# Altium integrated library Analog Devices Data Converters Digital-to-Analog Converters.IntLib: 2231 symbols (part 6 of 181)
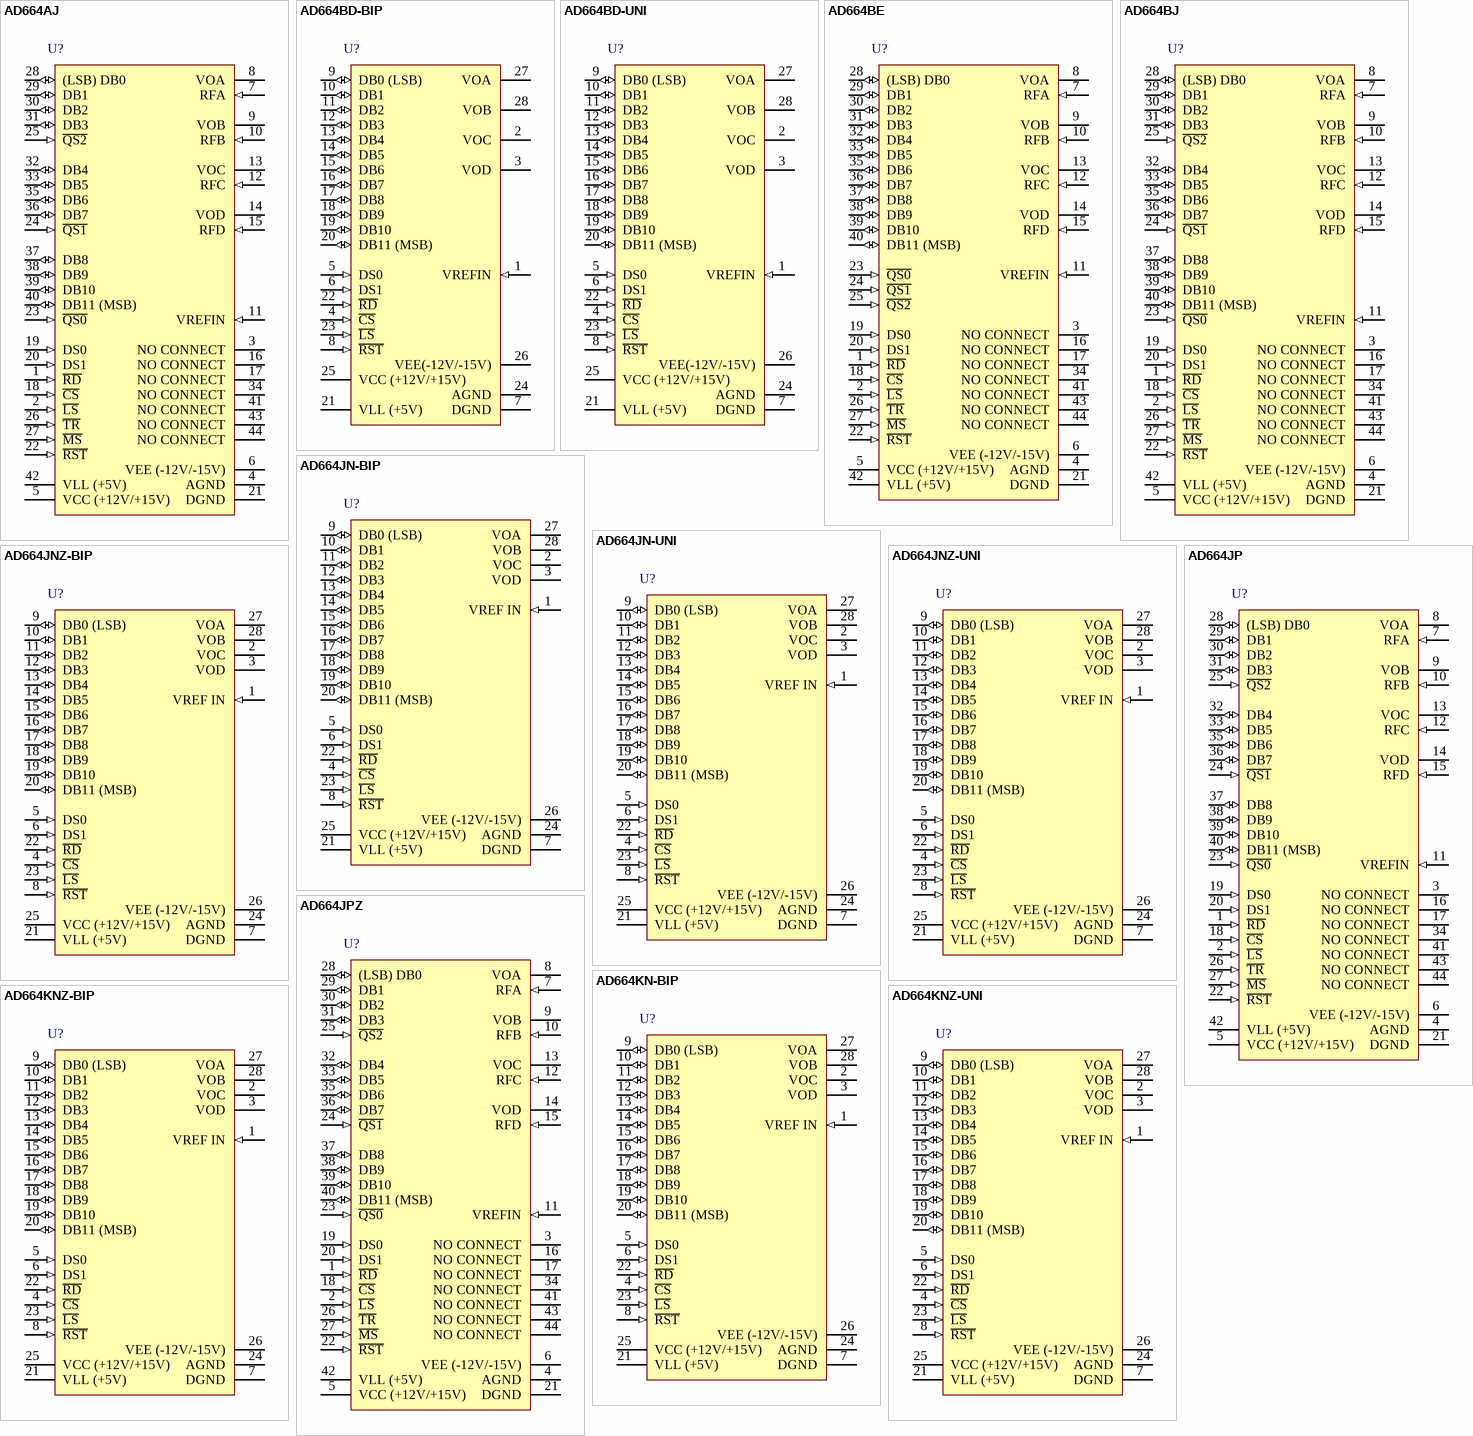
[diagram p119: symbols AD664AJ to AD664KNZ-UNI]

## AD664JN-UNI
designator U?
Quad 12-Bit Monolithic Digital-to-Analog Converter, 0 to +70 degC, N-28-2, Tube; Generic Part Number: AD664; Manufacturer: Analog Devices; PartNumber: AD664JN-UNI; # DAC Outputs: 4; Max V+: 16.5V; Op Pwr Diss: 525mW; Resolution (Bits): 12; Settling Time: 8µs; Single Supply: No; DatasheetVersion: Rev.D; PackageVersion: 071006-A; PackageReference: N-28-2; PackageDescription: 28-Lead Plastic Dual In-Line Package [PDIP]; Supplier 1: Digi-Key; Supplier Part Number 1: AD664JN-UNI-ND; Supplier 2: Newark; Supplier Part Number 2: 92F8924; Supplier 3: Mouser; Supplier Part Number 3: 584-AD664JN-UNI; Packing: Tube; RoHS: N; Mounting Technology: Through Hole; Code_JEDEC: MS-011; ComponentLink1Description: Manufacturer URL; ComponentLink1URL: http://www.analog.com/en/index.html; ComponentLink2Description: Datasheet; ComponentLink2URL: http://www.analog.com/static/imported-files/data_sheets/AD664.pdf; ComponentLink3Description: Package Specification; ComponentLink3URL: http://www.analog.com/static/imported-files/packages/50849324123784N_28_2.pdf; ComponentLink4Description: Product URL; ComponentLink4URL: http://www.analog.com/en/digital-to-analog-converters/da-converters/ad664/products/product.html
footprint N-28-2 (DIP, 28-Leads, Row Spacing 15.55mm, Pitch 2.54mm, Body 37.4x13.5mm)
pins: 1 VREF IN (in), 2 VOC (hiz), 3 VOD (hiz), 4 ~{CS} (in), 5 DS0 (in), 6 DS1 (in), 7 DGND (power), 8 ~{RST} (in), 9 DB0 (LSB) (io), 10 DB1 (io), 11 DB2 (io), 12 DB3 (io), 13 DB4 (io), 14 DB5 (io), 15 DB6 (io), 16 DB7 (io), 17 DB8 (io), 18 DB9 (io), 19 DB10 (io), 20 DB11 (MSB) (io), 21 VLL (+5V) (power), 22 ~{RD} (in), 23 ~{LS} (in), 24 AGND (power), 25 VCC (+12V/+15V) (power), 26 VEE (-12V/-15V) (power), 27 VOA (hiz), 28 VOB (hiz)

## AD664JNZ-BIP
designator U?
Quad 12-Bit Monolithic Digital-to-Analog Converter, 0 to +70 degC, N-28-2, Pb-Free, Tube; Generic Part Number: AD664; Manufacturer: Analog Devices; PartNumber: AD664JNZ-BIP; # DAC Outputs: 4; Max V+: 16.5V; Op Pwr Diss: 525mW; Resolution (Bits): 12; Settling Time: 8µs; Single Supply: No; DatasheetVersion: Rev.D; PackageVersion: 071006-A; PackageReference: N-28-2; PackageDescription: 28-Lead Plastic Dual In-Line Package [PDIP]; Supplier 1: Digi-Key; Supplier Part Number 1: AD664JNZ-BIP-ND; Supplier 2: Mouser; Supplier Part Number 2: 584-AD664JNZ-BIP; Packing: Tube; RoHS: Y; Mounting Technology: Through Hole; Code_JEDEC: MS-011; ComponentLink1Description: Manufacturer URL; ComponentLink1URL: http://www.analog.com/en/index.html; ComponentLink2Description: Datasheet; ComponentLink2URL: http://www.analog.com/static/imported-files/data_sheets/AD664.pdf; ComponentLink3Description: Package Specification; ComponentLink3URL: http://www.analog.com/static/imported-files/packages/50849324123784N_28_2.pdf; ComponentLink4Description: Product URL; ComponentLink4URL: http://www.analog.com/en/digital-to-analog-converters/da-converters/ad664/products/product.html
footprint N-28-2 (DIP, 28-Leads, Row Spacing 15.55mm, Pitch 2.54mm, Body 37.4x13.5mm)
pins: 1 VREF IN (in), 2 VOC (hiz), 3 VOD (hiz), 4 ~{CS} (in), 5 DS0 (in), 6 DS1 (in), 7 DGND (power), 8 ~{RST} (in), 9 DB0 (LSB) (io), 10 DB1 (io), 11 DB2 (io), 12 DB3 (io), 13 DB4 (io), 14 DB5 (io), 15 DB6 (io), 16 DB7 (io), 17 DB8 (io), 18 DB9 (io), 19 DB10 (io), 20 DB11 (MSB) (io), 21 VLL (+5V) (power), 22 ~{RD} (in), 23 ~{LS} (in), 24 AGND (power), 25 VCC (+12V/+15V) (power), 26 VEE (-12V/-15V) (power), 27 VOA (hiz), 28 VOB (hiz)

## AD664JNZ-UNI
designator U?
Quad 12-Bit Monolithic Digital-to-Analog Converter, 0 to +70 degC, N-28-2, Pb-Free, Tube; Generic Part Number: AD664; Manufacturer: Analog Devices; PartNumber: AD664JNZ-UNI; # DAC Outputs: 4; Max V+: 16.5V; Op Pwr Diss: 525mW; Resolution (Bits): 12; Settling Time: 8µs; Single Supply: No; DatasheetVersion: Rev.D; PackageVersion: 071006-A; PackageReference: N-28-2; PackageDescription: 28-Lead Plastic Dual In-Line Package [PDIP]; Supplier 1: Digi-Key; Supplier Part Number 1: AD664JNZ-UNI-ND; Supplier 2: Mouser; Supplier Part Number 2: 584-AD664JNZ-UNI; Packing: Tube; RoHS: Y; Mounting Technology: Through Hole; Code_JEDEC: MS-011; ComponentLink1Description: Manufacturer URL; ComponentLink1URL: http://www.analog.com/en/index.html; ComponentLink2Description: Datasheet; ComponentLink2URL: http://www.analog.com/static/imported-files/data_sheets/AD664.pdf; ComponentLink3Description: Package Specification; ComponentLink3URL: http://www.analog.com/static/imported-files/packages/50849324123784N_28_2.pdf; ComponentLink4Description: Product URL; ComponentLink4URL: http://www.analog.com/en/digital-to-analog-converters/da-converters/ad664/products/product.html
footprint N-28-2 (DIP, 28-Leads, Row Spacing 15.55mm, Pitch 2.54mm, Body 37.4x13.5mm)
pins: 1 VREF IN (in), 2 VOC (hiz), 3 VOD (hiz), 4 ~{CS} (in), 5 DS0 (in), 6 DS1 (in), 7 DGND (power), 8 ~{RST} (in), 9 DB0 (LSB) (io), 10 DB1 (io), 11 DB2 (io), 12 DB3 (io), 13 DB4 (io), 14 DB5 (io), 15 DB6 (io), 16 DB7 (io), 17 DB8 (io), 18 DB9 (io), 19 DB10 (io), 20 DB11 (MSB) (io), 21 VLL (+5V) (power), 22 ~{RD} (in), 23 ~{LS} (in), 24 AGND (power), 25 VCC (+12V/+15V) (power), 26 VEE (-12V/-15V) (power), 27 VOA (hiz), 28 VOB (hiz)

## AD664JP
designator U?
Quad 12-Bit Monolithic Digital-to-Analog Converter, 0 to +70 degC, P-44A, Tube; Generic Part Number: AD664; Manufacturer: Analog Devices; PartNumber: AD664JP; # DAC Outputs: 4; Max V+: 16.5V; Op Pwr Diss: 525mW; Resolution (Bits): 12; Settling Time: 8µs; Single Supply: No; DatasheetVersion: Rev.D; PackageVersion: 2003; PackageReference: P-44A; PackageDescription: 44-Lead Plastic Leaded Chip Carrier [PLCC]; Supplier 1: Digi-Key; Supplier Part Number 1: AD664JP-ND; Supplier 2: Mouser; Supplier Part Number 2: 584-AD664JP; Packing: Tube; RoHS: N; Mounting Technology: Surface Mount; Code_JEDEC: MO-047-AC; Code_IPC: PLCC-44; ComponentLink1Description: Manufacturer URL; ComponentLink1URL: http://www.analog.com/en/index.html; ComponentLink2Description: Datasheet; ComponentLink2URL: http://www.analog.com/static/imported-files/data_sheets/AD664.pdf; ComponentLink3Description: Package Specification; ComponentLink3URL: http://www.analog.com/static/imported-files/packages/533756178731793364534243243792136664964P44A.pdf; ComponentLink4Description: Product URL; ComponentLink4URL: http://www.analog.com/en/digital-to-analog-converters/da-converters/ad664/products/product.html
footprint P-44A_N (Leaded Chip Carrier, 44-Leads, Body 16.6x16.6mm, Pitch 1.27mm, IPC Medium Density)
footprint P-44A_L (Leaded Chip Carrier, 44-Leads, Body 16.6x16.6mm, Pitch 1.27mm, IPC High Density)
footprint P-44A_M (Leaded Chip Carrier, 44-Leads, Body 16.6x16.6mm, Pitch 1.27mm, IPC Low Density)
pins: 1 ~{RD} (in), 2 ~{LS} (in), 3 NO CONNECT, 4 AGND (power), 5 VCC (+12V/+15V) (power), 6 VEE (-12V/-15V) (power), 7 RFA (in), 8 VOA (hiz), 9 VOB (hiz), 10 RFB (in), 11 VREFIN (in), 12 RFC (in), 13 VOC (hiz), 14 VOD (hiz), 15 RFD (in), 16 NO CONNECT, 17 NO CONNECT, 18 ~{CS} (in), 19 DS0 (in), 20 DS1 (in), 21 DGND (power), 22 ~{RST} (in), 23 ~{QS0} (in), 24 ~{QS1} (in), 25 ~{QS2} (in), 26 ~{TR} (in), 27 ~{MS} (in), 28 (LSB) DB0 (io), 29 DB1 (io), 30 DB2 (io), 31 DB3 (io), 32 DB4 (io), 33 DB5 (io), 34 NO CONNECT, 35 DB6 (io), 36 DB7 (io), 37 DB8 (io), 38 DB9 (io), 39 DB10 (io), 40 DB11 (MSB) (io), 41 NO CONNECT, 42 VLL (+5V) (power), 43 NO CONNECT, 44 NO CONNECT

## AD664JPZ
designator U?
Quad 12-Bit Monolithic Digital-to-Analog Converter, 0 to +70 degC, P-44A, Pb-Free, Tube; Generic Part Number: AD664; Manufacturer: Analog Devices; PartNumber: AD664JPZ; # DAC Outputs: 4; Max V+: 16.5V; Op Pwr Diss: 525mW; Resolution (Bits): 12; Settling Time: 8µs; Single Supply: No; DatasheetVersion: Rev.D; PackageVersion: 2003; PackageReference: P-44A; PackageDescription: 44-Lead Plastic Leaded Chip Carrier [PLCC]; Supplier 1: Digi-Key; Supplier Part Number 1: AD664JPZ-ND; Supplier 2: Mouser; Supplier Part Number 2: 584-AD664JPZ; Packing: Tube; RoHS: Y; Mounting Technology: Surface Mount; Code_JEDEC: MO-047-AC; Code_IPC: PLCC-44; ComponentLink1Description: Manufacturer URL; ComponentLink1URL: http://www.analog.com/en/index.html; ComponentLink2Description: Datasheet; ComponentLink2URL: http://www.analog.com/static/imported-files/data_sheets/AD664.pdf; ComponentLink3Description: Package Specification; ComponentLink3URL: http://www.analog.com/static/imported-files/packages/533756178731793364534243243792136664964P44A.pdf; ComponentLink4Description: Product URL; ComponentLink4URL: http://www.analog.com/en/digital-to-analog-converters/da-converters/ad664/products/product.html
footprint P-44A_N (Leaded Chip Carrier, 44-Leads, Body 16.6x16.6mm, Pitch 1.27mm, IPC Medium Density)
footprint P-44A_L (Leaded Chip Carrier, 44-Leads, Body 16.6x16.6mm, Pitch 1.27mm, IPC High Density)
footprint P-44A_M (Leaded Chip Carrier, 44-Leads, Body 16.6x16.6mm, Pitch 1.27mm, IPC Low Density)
pins: 1 ~{RD} (in), 2 ~{LS} (in), 3 NO CONNECT, 4 AGND (power), 5 VCC (+12V/+15V) (power), 6 VEE (-12V/-15V) (power), 7 RFA (in), 8 VOA (hiz), 9 VOB (hiz), 10 RFB (in), 11 VREFIN (in), 12 RFC (in), 13 VOC (hiz), 14 VOD (hiz), 15 RFD (in), 16 NO CONNECT, 17 NO CONNECT, 18 ~{CS} (in), 19 DS0 (in), 20 DS1 (in), 21 DGND (power), 22 ~{RST} (in), 23 ~{QS0} (in), 24 ~{QS1} (in), 25 ~{QS2} (in), 26 ~{TR} (in), 27 ~{MS} (in), 28 (LSB) DB0 (io), 29 DB1 (io), 30 DB2 (io), 31 DB3 (io), 32 DB4 (io), 33 DB5 (io), 34 NO CONNECT, 35 DB6 (io), 36 DB7 (io), 37 DB8 (io), 38 DB9 (io), 39 DB10 (io), 40 DB11 (MSB) (io), 41 NO CONNECT, 42 VLL (+5V) (power), 43 NO CONNECT, 44 NO CONNECT

## AD664KN-BIP
designator U?
Quad 12-Bit Monolithic Digital-to-Analog Converter, 0 to +70 degC, N-28-2, Tube; Generic Part Number: AD664; Manufacturer: Analog Devices; PartNumber: AD664KN-BIP; # DAC Outputs: 4; Max V+: 16.5V; Op Pwr Diss: 525mW; Resolution (Bits): 12; Settling Time: 8µs; Single Supply: No; DatasheetVersion: Rev.D; PackageVersion: 071006-A; PackageReference: N-28-2; PackageDescription: 28-Lead Plastic Dual In-Line Package [PDIP]; Supplier 1: Digi-Key; Supplier Part Number 1: AD664KN-BIP-ND; Supplier 2: Newark; Supplier Part Number 2: 92F8922; Supplier 3: Mouser; Supplier Part Number 3: 584-AD664KN-BIP; Packing: Tube; RoHS: N; Mounting Technology: Through Hole; Code_JEDEC: MS-011; ComponentLink1Description: Manufacturer URL; ComponentLink1URL: http://www.analog.com/en/index.html; ComponentLink2Description: Datasheet; ComponentLink2URL: http://www.analog.com/static/imported-files/data_sheets/AD664.pdf; ComponentLink3Description: Package Specification; ComponentLink3URL: http://www.analog.com/static/imported-files/packages/50849324123784N_28_2.pdf; ComponentLink4Description: Product URL; ComponentLink4URL: http://www.analog.com/en/digital-to-analog-converters/da-converters/ad664/products/product.html
footprint N-28-2 (DIP, 28-Leads, Row Spacing 15.55mm, Pitch 2.54mm, Body 37.4x13.5mm)
pins: 1 VREF IN (in), 2 VOC (hiz), 3 VOD (hiz), 4 ~{CS} (in), 5 DS0 (in), 6 DS1 (in), 7 DGND (power), 8 ~{RST} (in), 9 DB0 (LSB) (io), 10 DB1 (io), 11 DB2 (io), 12 DB3 (io), 13 DB4 (io), 14 DB5 (io), 15 DB6 (io), 16 DB7 (io), 17 DB8 (io), 18 DB9 (io), 19 DB10 (io), 20 DB11 (MSB) (io), 21 VLL (+5V) (power), 22 ~{RD} (in), 23 ~{LS} (in), 24 AGND (power), 25 VCC (+12V/+15V) (power), 26 VEE (-12V/-15V) (power), 27 VOA (hiz), 28 VOB (hiz)

## AD664KNZ-BIP
designator U?
Quad 12-Bit Monolithic Digital-to-Analog Converter, 0 to +70 degC, N-28-2, Pb-Free, Tube; Generic Part Number: AD664; Manufacturer: Analog Devices; PartNumber: AD664KNZ-BIP; # DAC Outputs: 4; Max V+: 16.5V; Op Pwr Diss: 525mW; Resolution (Bits): 12; Settling Time: 8µs; Single Supply: No; DatasheetVersion: Rev.D; PackageVersion: 071006-A; PackageReference: N-28-2; PackageDescription: 28-Lead Plastic Dual In-Line Package [PDIP]; Supplier 1: Digi-Key; Supplier Part Number 1: AD664KNZ-BIP-ND; Supplier 2: Mouser; Supplier Part Number 2: 584-AD664KNZ-BIP; Packing: Tube; RoHS: Y; Mounting Technology: Through Hole; Code_JEDEC: MS-011; ComponentLink1Description: Manufacturer URL; ComponentLink1URL: http://www.analog.com/en/index.html; ComponentLink2Description: Datasheet; ComponentLink2URL: http://www.analog.com/static/imported-files/data_sheets/AD664.pdf; ComponentLink3Description: Package Specification; ComponentLink3URL: http://www.analog.com/static/imported-files/packages/50849324123784N_28_2.pdf; ComponentLink4Description: Product URL; ComponentLink4URL: http://www.analog.com/en/digital-to-analog-converters/da-converters/ad664/products/product.html
footprint N-28-2 (DIP, 28-Leads, Row Spacing 15.55mm, Pitch 2.54mm, Body 37.4x13.5mm)
pins: 1 VREF IN (in), 2 VOC (hiz), 3 VOD (hiz), 4 ~{CS} (in), 5 DS0 (in), 6 DS1 (in), 7 DGND (power), 8 ~{RST} (in), 9 DB0 (LSB) (io), 10 DB1 (io), 11 DB2 (io), 12 DB3 (io), 13 DB4 (io), 14 DB5 (io), 15 DB6 (io), 16 DB7 (io), 17 DB8 (io), 18 DB9 (io), 19 DB10 (io), 20 DB11 (MSB) (io), 21 VLL (+5V) (power), 22 ~{RD} (in), 23 ~{LS} (in), 24 AGND (power), 25 VCC (+12V/+15V) (power), 26 VEE (-12V/-15V) (power), 27 VOA (hiz), 28 VOB (hiz)

## AD664KNZ-UNI
designator U?
Quad 12-Bit Monolithic Digital-to-Analog Converter, 0 to +70 degC, N-28-2, Pb-Free, Tube; Generic Part Number: AD664; Manufacturer: Analog Devices; PartNumber: AD664KNZ-UNI; # DAC Outputs: 4; Max V+: 16.5V; Op Pwr Diss: 525mW; Resolution (Bits): 12; Settling Time: 8µs; Single Supply: No; DatasheetVersion: Rev.D; PackageVersion: 071006-A; PackageReference: N-28-2; PackageDescription: 28-Lead Plastic Dual In-Line Package [PDIP]; Supplier 1: Digi-Key; Supplier Part Number 1: AD664KNZ-UNI-ND; Supplier 2: Mouser; Supplier Part Number 2: 584-AD664KNZ-UNI; Packing: Tube; RoHS: Y; Mounting Technology: Through Hole; Code_JEDEC: MS-011; ComponentLink1Description: Manufacturer URL; ComponentLink1URL: http://www.analog.com/en/index.html; ComponentLink2Description: Datasheet; ComponentLink2URL: http://www.analog.com/static/imported-files/data_sheets/AD664.pdf; ComponentLink3Description: Package Specification; ComponentLink3URL: http://www.analog.com/static/imported-files/packages/50849324123784N_28_2.pdf; ComponentLink4Description: Product URL; ComponentLink4URL: http://www.analog.com/en/digital-to-analog-converters/da-converters/ad664/products/product.html
footprint N-28-2 (DIP, 28-Leads, Row Spacing 15.55mm, Pitch 2.54mm, Body 37.4x13.5mm)
pins: 1 VREF IN (in), 2 VOC (hiz), 3 VOD (hiz), 4 ~{CS} (in), 5 DS0 (in), 6 DS1 (in), 7 DGND (power), 8 ~{RST} (in), 9 DB0 (LSB) (io), 10 DB1 (io), 11 DB2 (io), 12 DB3 (io), 13 DB4 (io), 14 DB5 (io), 15 DB6 (io), 16 DB7 (io), 17 DB8 (io), 18 DB9 (io), 19 DB10 (io), 20 DB11 (MSB) (io), 21 VLL (+5V) (power), 22 ~{RD} (in), 23 ~{LS} (in), 24 AGND (power), 25 VCC (+12V/+15V) (power), 26 VEE (-12V/-15V) (power), 27 VOA (hiz), 28 VOB (hiz)

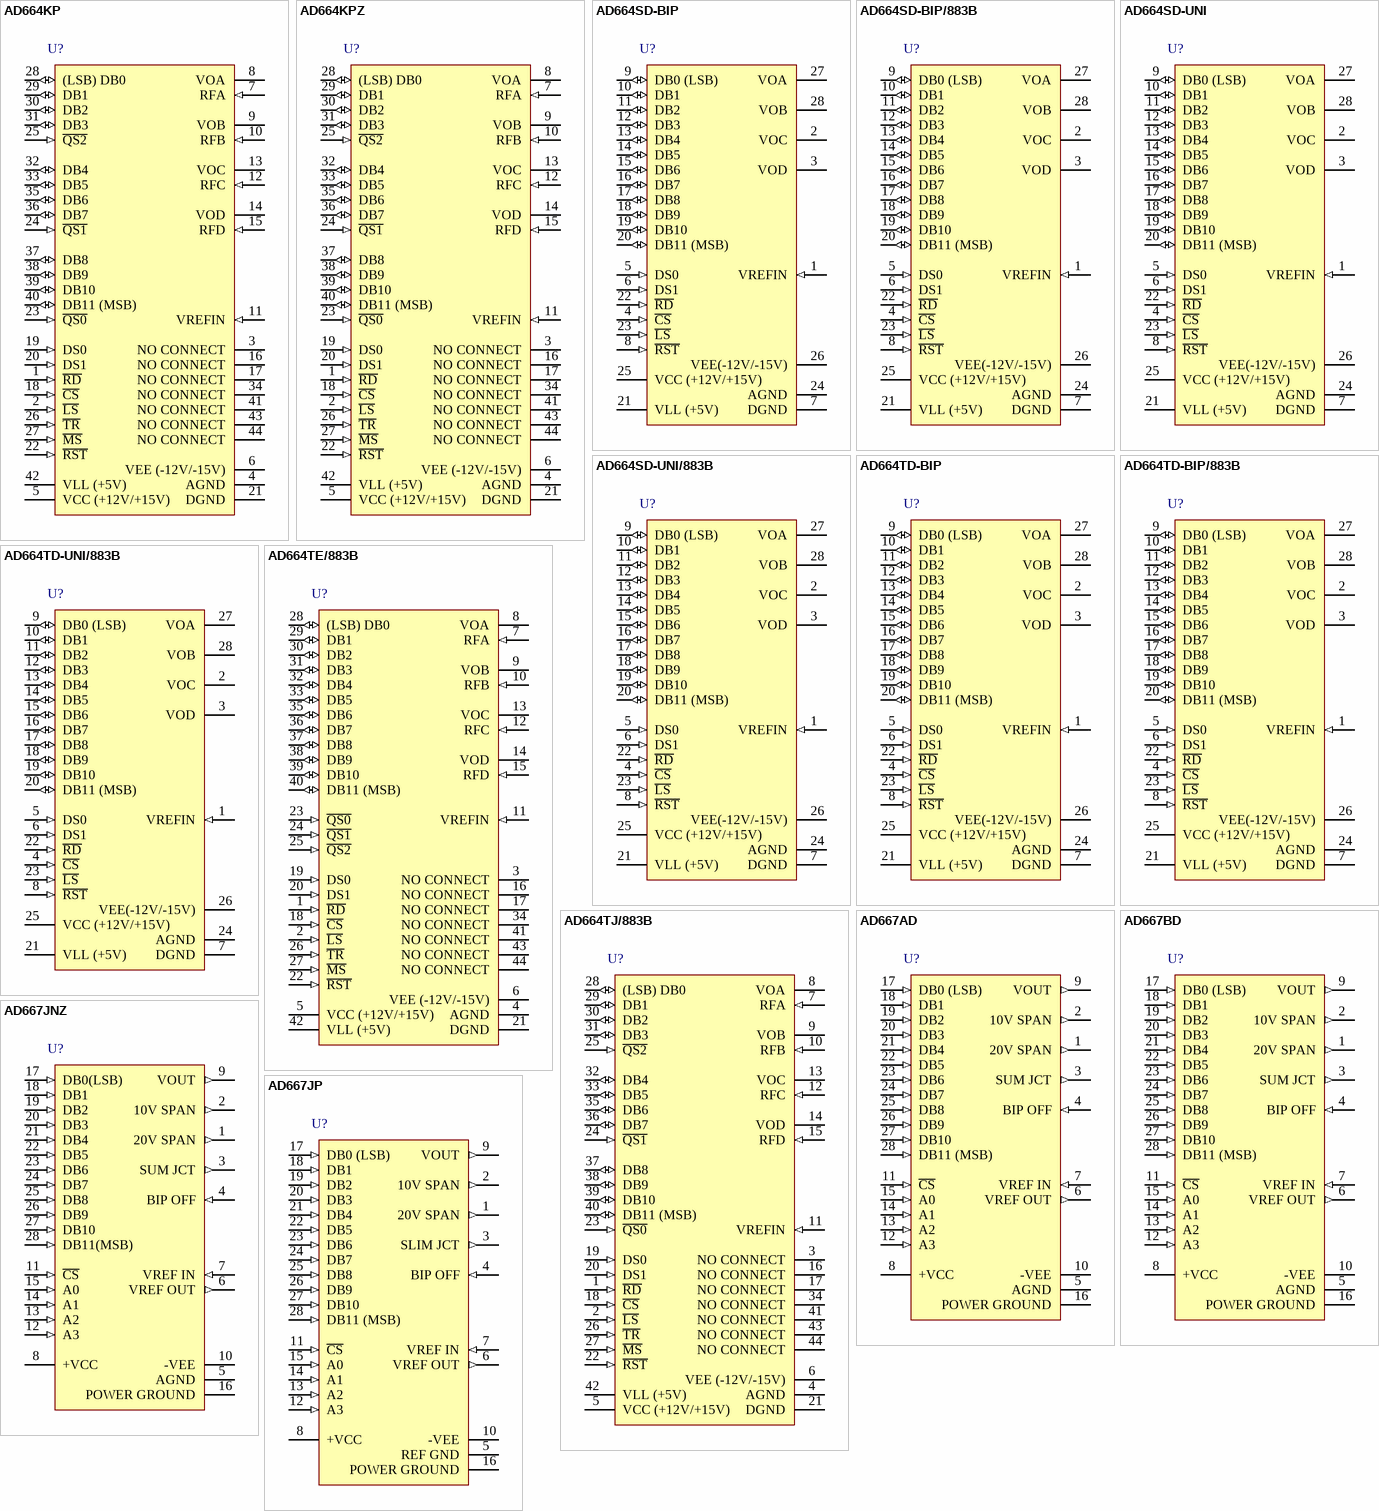
[diagram p5: symbols AD664KP to AD667JP]

## AD664KP
designator U?
Quad 12-Bit Monolithic Digital-to-Analog Converter, 0 to +70 degC, P-44A, Tube; Generic Part Number: AD664; Manufacturer: Analog Devices; PartNumber: AD664KP; # DAC Outputs: 4; Max V+: 16.5V; Op Pwr Diss: 525mW; Resolution (Bits): 12; Settling Time: 8µs; Single Supply: No; DatasheetVersion: Rev.D; PackageVersion: 2003; PackageReference: P-44A; PackageDescription: 44-Lead Plastic Leaded Chip Carrier [PLCC]; Supplier 1: Digi-Key; Supplier Part Number 1: AD664KP-ND; Supplier 2: Newark; Supplier Part Number 2: 05F7173; Supplier 3: Mouser; Supplier Part Number 3: 584-AD664KP; Packing: Tube; RoHS: N; Mounting Technology: Surface Mount; Code_JEDEC: MO-047-AC; Code_IPC: PLCC-44; ComponentLink1Description: Manufacturer URL; ComponentLink1URL: http://www.analog.com/en/index.html; ComponentLink2Description: Datasheet; ComponentLink2URL: http://www.analog.com/static/imported-files/data_sheets/AD664.pdf; ComponentLink3Description: Package Specification; ComponentLink3URL: http://www.analog.com/static/imported-files/packages/533756178731793364534243243792136664964P44A.pdf; ComponentLink4Description: Product URL; ComponentLink4URL: http://www.analog.com/en/digital-to-analog-converters/da-converters/ad664/products/product.html
footprint P-44A_N (Leaded Chip Carrier, 44-Leads, Body 16.6x16.6mm, Pitch 1.27mm, IPC Medium Density)
footprint P-44A_L (Leaded Chip Carrier, 44-Leads, Body 16.6x16.6mm, Pitch 1.27mm, IPC High Density)
footprint P-44A_M (Leaded Chip Carrier, 44-Leads, Body 16.6x16.6mm, Pitch 1.27mm, IPC Low Density)
pins: 1 ~{RD} (in), 2 ~{LS} (in), 3 NO CONNECT, 4 AGND (power), 5 VCC (+12V/+15V) (power), 6 VEE (-12V/-15V) (power), 7 RFA (in), 8 VOA (hiz), 9 VOB (hiz), 10 RFB (in), 11 VREFIN (in), 12 RFC (in), 13 VOC (hiz), 14 VOD (hiz), 15 RFD (in), 16 NO CONNECT, 17 NO CONNECT, 18 ~{CS} (in), 19 DS0 (in), 20 DS1 (in), 21 DGND (power), 22 ~{RST} (in), 23 ~{QS0} (in), 24 ~{QS1} (in), 25 ~{QS2} (in), 26 ~{TR} (in), 27 ~{MS} (in), 28 (LSB) DB0 (io), 29 DB1 (io), 30 DB2 (io), 31 DB3 (io), 32 DB4 (io), 33 DB5 (io), 34 NO CONNECT, 35 DB6 (io), 36 DB7 (io), 37 DB8 (io), 38 DB9 (io), 39 DB10 (io), 40 DB11 (MSB) (io), 41 NO CONNECT, 42 VLL (+5V) (power), 43 NO CONNECT, 44 NO CONNECT

## AD664KPZ
designator U?
Quad 12-Bit Monolithic Digital-to-Analog Converter, 0 to +70 degC, P-44A, Pb-Free, Tube; Generic Part Number: AD664; Manufacturer: Analog Devices; PartNumber: AD664KPZ; # DAC Outputs: 4; Max V+: 16.5V; Op Pwr Diss: 525mW; Resolution (Bits): 12; Settling Time: 8µs; Single Supply: No; DatasheetVersion: Rev.D; PackageVersion: 2003; PackageReference: P-44A; PackageDescription: 44-Lead Plastic Leaded Chip Carrier [PLCC]; Supplier 1: Digi-Key; Supplier Part Number 1: AD664KPZ-ND; Supplier 2: Mouser; Supplier Part Number 2: 584-AD664KPZ; Packing: Tube; RoHS: Y; Mounting Technology: Surface Mount; Code_JEDEC: MO-047-AC; Code_IPC: PLCC-44; ComponentLink1Description: Manufacturer URL; ComponentLink1URL: http://www.analog.com/en/index.html; ComponentLink2Description: Datasheet; ComponentLink2URL: http://www.analog.com/static/imported-files/data_sheets/AD664.pdf; ComponentLink3Description: Package Specification; ComponentLink3URL: http://www.analog.com/static/imported-files/packages/533756178731793364534243243792136664964P44A.pdf; ComponentLink4Description: Product URL; ComponentLink4URL: http://www.analog.com/en/digital-to-analog-converters/da-converters/ad664/products/product.html
footprint P-44A_N (Leaded Chip Carrier, 44-Leads, Body 16.6x16.6mm, Pitch 1.27mm, IPC Medium Density)
footprint P-44A_L (Leaded Chip Carrier, 44-Leads, Body 16.6x16.6mm, Pitch 1.27mm, IPC High Density)
footprint P-44A_M (Leaded Chip Carrier, 44-Leads, Body 16.6x16.6mm, Pitch 1.27mm, IPC Low Density)
pins: 1 ~{RD} (in), 2 ~{LS} (in), 3 NO CONNECT, 4 AGND (power), 5 VCC (+12V/+15V) (power), 6 VEE (-12V/-15V) (power), 7 RFA (in), 8 VOA (hiz), 9 VOB (hiz), 10 RFB (in), 11 VREFIN (in), 12 RFC (in), 13 VOC (hiz), 14 VOD (hiz), 15 RFD (in), 16 NO CONNECT, 17 NO CONNECT, 18 ~{CS} (in), 19 DS0 (in), 20 DS1 (in), 21 DGND (power), 22 ~{RST} (in), 23 ~{QS0} (in), 24 ~{QS1} (in), 25 ~{QS2} (in), 26 ~{TR} (in), 27 ~{MS} (in), 28 (LSB) DB0 (io), 29 DB1 (io), 30 DB2 (io), 31 DB3 (io), 32 DB4 (io), 33 DB5 (io), 34 NO CONNECT, 35 DB6 (io), 36 DB7 (io), 37 DB8 (io), 38 DB9 (io), 39 DB10 (io), 40 DB11 (MSB) (io), 41 NO CONNECT, 42 VLL (+5V) (power), 43 NO CONNECT, 44 NO CONNECT

## AD664SD-BIP
designator U?
Quad 12-Bit Monolithic Digital-to-Analog Converter, -55 to +125 degC, D-28-2, Tube; Generic Part Number: AD664; Manufacturer: Analog Devices; PartNumber: AD664SD-BIP; # DAC Outputs: 4; Max V+: 16.5V; Op Pwr Diss: 525mW; Resolution (Bits): 12; Settling Time: 8µs; Single Supply: No; DatasheetVersion: Rev.D; PackageVersion: Oct-2004; PackageReference: D-28-2; PackageDescription: 28-Lead Side-Brazed Ceramic Dual In-Line Package [SBDIP]; Supplier 1: Digi-Key; Supplier Part Number 1: AD664SD-BIP-ND; Supplier 2: Newark; Supplier Part Number 2: 16F3498; Supplier 3: Mouser; Supplier Part Number 3: 584-AD664SD-BIP; Packing: Tube; RoHS: N; Mounting Technology: Through Hole; ComponentLink1Description: Manufacturer URL; ComponentLink1URL: http://www.analog.com/en/index.html; ComponentLink2Description: Datasheet; ComponentLink2URL: http://www.analog.com/static/imported-files/data_sheets/AD664.pdf; ComponentLink3Description: Package Specification; ComponentLink3URL: http://www.analog.com/static/imported-files/packages/28824602D_28_2.pdf; ComponentLink4Description: Product URL; ComponentLink4URL: http://www.analog.com/en/digital-to-analog-converters/da-converters/ad664/products/product.html
footprint D-28-2 (DIP, 28-Leads, Row Spacing 15.24mm, Pitch 2.54mm, Body 37.2x14.1mm)
pins: 1 VREFIN (in), 2 VOC (hiz), 3 VOD (hiz), 4 ~{CS} (in), 5 DS0 (in), 6 DS1 (in), 7 DGND (power), 8 ~{RST} (in), 9 DB0 (LSB) (io), 10 DB1 (io), 11 DB2 (io), 12 DB3 (io), 13 DB4 (io), 14 DB5 (io), 15 DB6 (io), 16 DB7 (io), 17 DB8 (io), 18 DB9 (io), 19 DB10 (io), 20 DB11 (MSB) (io), 21 VLL (+5V) (power), 22 ~{RD} (in), 23 ~{LS} (in), 24 AGND (power), 25 VCC (+12V/+15V) (power), 26 VEE(-12V/-15V) (power), 27 VOA (hiz), 28 VOB (hiz)

## AD664SD-BIP/883B
designator U?
Quad 12-Bit Monolithic Digital-to-Analog Converter, -55 to +125 degC, D-28-2, Tube; Generic Part Number: AD664; Manufacturer: Analog Devices; PartNumber: AD664SD-BIP/883B; # DAC Outputs: 4; Max V+: 16.5V; Op Pwr Diss: 525mW; Resolution (Bits): 12; Settling Time: 8µs; Single Supply: No; DatasheetVersion: Rev.D; PackageVersion: Oct-2004; PackageReference: D-28-2; PackageDescription: 28-Lead Side-Brazed Ceramic Dual In-Line Package [SBDIP]; Supplier 1: Mouser; Supplier Part Number 1: 584-AD664SD-BIP883B; Packing: Tube; RoHS: N; Mounting Technology: Through Hole; ComponentLink1Description: Manufacturer URL; ComponentLink1URL: http://www.analog.com/en/index.html; ComponentLink2Description: Datasheet; ComponentLink2URL: http://www.analog.com/static/imported-files/data_sheets/AD664.pdf; ComponentLink3Description: Package Specification; ComponentLink3URL: http://www.analog.com/static/imported-files/packages/28824602D_28_2.pdf; ComponentLink4Description: Product URL; ComponentLink4URL: http://www.analog.com/en/digital-to-analog-converters/da-converters/ad664/products/product.html
footprint D-28-2 (DIP, 28-Leads, Row Spacing 15.24mm, Pitch 2.54mm, Body 37.2x14.1mm)
pins: 1 VREFIN (in), 2 VOC (hiz), 3 VOD (hiz), 4 ~{CS} (in), 5 DS0 (in), 6 DS1 (in), 7 DGND (power), 8 ~{RST} (in), 9 DB0 (LSB) (io), 10 DB1 (io), 11 DB2 (io), 12 DB3 (io), 13 DB4 (io), 14 DB5 (io), 15 DB6 (io), 16 DB7 (io), 17 DB8 (io), 18 DB9 (io), 19 DB10 (io), 20 DB11 (MSB) (io), 21 VLL (+5V) (power), 22 ~{RD} (in), 23 ~{LS} (in), 24 AGND (power), 25 VCC (+12V/+15V) (power), 26 VEE(-12V/-15V) (power), 27 VOA (hiz), 28 VOB (hiz)

## AD664SD-UNI
designator U?
Quad 12-Bit Monolithic Digital-to-Analog Converter, -55 to +125 degC, D-28-2, Tube; Generic Part Number: AD664; Manufacturer: Analog Devices; PartNumber: AD664SD-UNI; # DAC Outputs: 4; Max V+: 16.5V; Op Pwr Diss: 525mW; Resolution (Bits): 12; Settling Time: 8µs; Single Supply: No; DatasheetVersion: Rev.D; PackageVersion: Oct-2004; PackageReference: D-28-2; PackageDescription: 28-Lead Side-Brazed Ceramic Dual In-Line Package [SBDIP]; Supplier 1: Digi-Key; Supplier Part Number 1: AD664SD-UNI-ND; Supplier 2: Mouser; Supplier Part Number 2: 584-AD664SD-UNI; Packing: Tube; RoHS: N; Mounting Technology: Through Hole; ComponentLink1Description: Manufacturer URL; ComponentLink1URL: http://www.analog.com/en/index.html; ComponentLink2Description: Datasheet; ComponentLink2URL: http://www.analog.com/static/imported-files/data_sheets/AD664.pdf; ComponentLink3Description: Package Specification; ComponentLink3URL: http://www.analog.com/static/imported-files/packages/28824602D_28_2.pdf; ComponentLink4Description: Product URL; ComponentLink4URL: http://www.analog.com/en/digital-to-analog-converters/da-converters/ad664/products/product.html
footprint D-28-2 (DIP, 28-Leads, Row Spacing 15.24mm, Pitch 2.54mm, Body 37.2x14.1mm)
pins: 1 VREFIN (in), 2 VOC (hiz), 3 VOD (hiz), 4 ~{CS} (in), 5 DS0 (in), 6 DS1 (in), 7 DGND (power), 8 ~{RST} (in), 9 DB0 (LSB) (io), 10 DB1 (io), 11 DB2 (io), 12 DB3 (io), 13 DB4 (io), 14 DB5 (io), 15 DB6 (io), 16 DB7 (io), 17 DB8 (io), 18 DB9 (io), 19 DB10 (io), 20 DB11 (MSB) (io), 21 VLL (+5V) (power), 22 ~{RD} (in), 23 ~{LS} (in), 24 AGND (power), 25 VCC (+12V/+15V) (power), 26 VEE(-12V/-15V) (power), 27 VOA (hiz), 28 VOB (hiz)

## AD664SD-UNI/883B
designator U?
Quad 12-Bit Monolithic Digital-to-Analog Converter, -55 to +125 degC, D-28-2, Tube; Generic Part Number: AD664; Manufacturer: Analog Devices; PartNumber: AD664SD-UNI/883B; # DAC Outputs: 4; Max V+: 16.5V; Op Pwr Diss: 525mW; Resolution (Bits): 12; Settling Time: 8µs; Single Supply: No; DatasheetVersion: Rev.D; PackageVersion: Oct-2004; PackageReference: D-28-2; PackageDescription: 28-Lead Side-Brazed Ceramic Dual In-Line Package [SBDIP]; Supplier 1: Mouser; Supplier Part Number 1: 584-AD664SD-UNI883B; Packing: Tube; RoHS: N; Mounting Technology: Through Hole; ComponentLink1Description: Manufacturer URL; ComponentLink1URL: http://www.analog.com/en/index.html; ComponentLink2Description: Datasheet; ComponentLink2URL: http://www.analog.com/static/imported-files/data_sheets/AD664.pdf; ComponentLink3Description: Package Specification; ComponentLink3URL: http://www.analog.com/static/imported-files/packages/28824602D_28_2.pdf; ComponentLink4Description: Product URL; ComponentLink4URL: http://www.analog.com/en/digital-to-analog-converters/da-converters/ad664/products/product.html
footprint D-28-2 (DIP, 28-Leads, Row Spacing 15.24mm, Pitch 2.54mm, Body 37.2x14.1mm)
pins: 1 VREFIN (in), 2 VOC (hiz), 3 VOD (hiz), 4 ~{CS} (in), 5 DS0 (in), 6 DS1 (in), 7 DGND (power), 8 ~{RST} (in), 9 DB0 (LSB) (io), 10 DB1 (io), 11 DB2 (io), 12 DB3 (io), 13 DB4 (io), 14 DB5 (io), 15 DB6 (io), 16 DB7 (io), 17 DB8 (io), 18 DB9 (io), 19 DB10 (io), 20 DB11 (MSB) (io), 21 VLL (+5V) (power), 22 ~{RD} (in), 23 ~{LS} (in), 24 AGND (power), 25 VCC (+12V/+15V) (power), 26 VEE(-12V/-15V) (power), 27 VOA (hiz), 28 VOB (hiz)

## AD664TD-BIP
designator U?
Quad 12-Bit Monolithic Digital-to-Analog Converter, -55 to +125 degC, D-28-2, Tube; Generic Part Number: AD664; Manufacturer: Analog Devices; PartNumber: AD664TD-BIP; # DAC Outputs: 4; Max V+: 16.5V; Op Pwr Diss: 525mW; Resolution (Bits): 12; Settling Time: 8µs; Single Supply: No; DatasheetVersion: Rev.D; PackageVersion: Oct-2004; PackageReference: D-28-2; PackageDescription: 28-Lead Side-Brazed Ceramic Dual In-Line Package [SBDIP]; Supplier 1: Digi-Key; Supplier Part Number 1: AD664TD-BIP-ND; Supplier 2: Mouser; Supplier Part Number 2: 584-AD664TD-BIP; Packing: Tube; RoHS: N; Mounting Technology: Through Hole; ComponentLink1Description: Manufacturer URL; ComponentLink1URL: http://www.analog.com/en/index.html; ComponentLink2Description: Datasheet; ComponentLink2URL: http://www.analog.com/static/imported-files/data_sheets/AD664.pdf; ComponentLink3Description: Package Specification; ComponentLink3URL: http://www.analog.com/static/imported-files/packages/28824602D_28_2.pdf; ComponentLink4Description: Product URL; ComponentLink4URL: http://www.analog.com/en/digital-to-analog-converters/da-converters/ad664/products/product.html
footprint D-28-2 (DIP, 28-Leads, Row Spacing 15.24mm, Pitch 2.54mm, Body 37.2x14.1mm)
pins: 1 VREFIN (in), 2 VOC (hiz), 3 VOD (hiz), 4 ~{CS} (in), 5 DS0 (in), 6 DS1 (in), 7 DGND (power), 8 ~{RST} (in), 9 DB0 (LSB) (io), 10 DB1 (io), 11 DB2 (io), 12 DB3 (io), 13 DB4 (io), 14 DB5 (io), 15 DB6 (io), 16 DB7 (io), 17 DB8 (io), 18 DB9 (io), 19 DB10 (io), 20 DB11 (MSB) (io), 21 VLL (+5V) (power), 22 ~{RD} (in), 23 ~{LS} (in), 24 AGND (power), 25 VCC (+12V/+15V) (power), 26 VEE(-12V/-15V) (power), 27 VOA (hiz), 28 VOB (hiz)

## AD664TD-BIP/883B
designator U?
Quad 12-Bit Monolithic Digital-to-Analog Converter, -55 to +125 degC, D-28-2, Tube; Generic Part Number: AD664; Manufacturer: Analog Devices; PartNumber: AD664TD-BIP/883B; # DAC Outputs: 4; Max V+: 16.5V; Op Pwr Diss: 525mW; Resolution (Bits): 12; Settling Time: 8µs; Single Supply: No; DatasheetVersion: Rev.D; PackageVersion: Oct-2004; PackageReference: D-28-2; PackageDescription: 28-Lead Side-Brazed Ceramic Dual In-Line Package [SBDIP]; Supplier 1: Mouser; Supplier Part Number 1: 584-AD664TD-BIP883B; Packing: Tube; RoHS: N; Mounting Technology: Through Hole; ComponentLink1Description: Manufacturer URL; ComponentLink1URL: http://www.analog.com/en/index.html; ComponentLink2Description: Datasheet; ComponentLink2URL: http://www.analog.com/static/imported-files/data_sheets/AD664.pdf; ComponentLink3Description: Package Specification; ComponentLink3URL: http://www.analog.com/static/imported-files/packages/28824602D_28_2.pdf; ComponentLink4Description: Product URL; ComponentLink4URL: http://www.analog.com/en/digital-to-analog-converters/da-converters/ad664/products/product.html
footprint D-28-2 (DIP, 28-Leads, Row Spacing 15.24mm, Pitch 2.54mm, Body 37.2x14.1mm)
pins: 1 VREFIN (in), 2 VOC (hiz), 3 VOD (hiz), 4 ~{CS} (in), 5 DS0 (in), 6 DS1 (in), 7 DGND (power), 8 ~{RST} (in), 9 DB0 (LSB) (io), 10 DB1 (io), 11 DB2 (io), 12 DB3 (io), 13 DB4 (io), 14 DB5 (io), 15 DB6 (io), 16 DB7 (io), 17 DB8 (io), 18 DB9 (io), 19 DB10 (io), 20 DB11 (MSB) (io), 21 VLL (+5V) (power), 22 ~{RD} (in), 23 ~{LS} (in), 24 AGND (power), 25 VCC (+12V/+15V) (power), 26 VEE(-12V/-15V) (power), 27 VOA (hiz), 28 VOB (hiz)

## AD664TD-UNI/883B
designator U?
Quad 12-Bit Monolithic Digital-to-Analog Converter, -55 to +125 degC, D-28-2, Tube; Generic Part Number: AD664; Manufacturer: Analog Devices; PartNumber: AD664TD-UNI/883B; # DAC Outputs: 4; Max V+: 16.5V; Op Pwr Diss: 525mW; Resolution (Bits): 12; Settling Time: 8µs; Single Supply: No; DatasheetVersion: Rev.D; PackageVersion: Oct-2004; PackageReference: D-28-2; PackageDescription: 28-Lead Side-Brazed Ceramic Dual In-Line Package [SBDIP]; Supplier 1: Mouser; Supplier Part Number 1: 584-AD664TD-UNI883B; Packing: Tube; RoHS: N; Mounting Technology: Through Hole; ComponentLink1Description: Manufacturer URL; ComponentLink1URL: http://www.analog.com/en/index.html; ComponentLink2Description: Datasheet; ComponentLink2URL: http://www.analog.com/static/imported-files/data_sheets/AD664.pdf; ComponentLink3Description: Package Specification; ComponentLink3URL: http://www.analog.com/static/imported-files/packages/28824602D_28_2.pdf; ComponentLink4Description: Product URL; ComponentLink4URL: http://www.analog.com/en/digital-to-analog-converters/da-converters/ad664/products/product.html
footprint D-28-2 (DIP, 28-Leads, Row Spacing 15.24mm, Pitch 2.54mm, Body 37.2x14.1mm)
pins: 1 VREFIN (in), 2 VOC (hiz), 3 VOD (hiz), 4 ~{CS} (in), 5 DS0 (in), 6 DS1 (in), 7 DGND (power), 8 ~{RST} (in), 9 DB0 (LSB) (io), 10 DB1 (io), 11 DB2 (io), 12 DB3 (io), 13 DB4 (io), 14 DB5 (io), 15 DB6 (io), 16 DB7 (io), 17 DB8 (io), 18 DB9 (io), 19 DB10 (io), 20 DB11 (MSB) (io), 21 VLL (+5V) (power), 22 ~{RD} (in), 23 ~{LS} (in), 24 AGND (power), 25 VCC (+12V/+15V) (power), 26 VEE(-12V/-15V) (power), 27 VOA (hiz), 28 VOB (hiz)

## AD664TE/883B
designator U?
Quad 12-Bit Monolithic Digital-to-Analog Converter, -55 to +125 degC, E-44-1, Tube; Generic Part Number: AD664; Manufacturer: Analog Devices; PartNumber: AD664TE/883B; # DAC Outputs: 4; Max V+: 16.5V; Op Pwr Diss: 525mW; Resolution (Bits): 12; Settling Time: 8µs; Single Supply: No; DatasheetVersion: Rev.D; PackageVersion: 022106-A; PackageReference: E-44-1; PackageDescription: 44-Terminal Ceramic Leadless Chip Carrier [LCC]; Supplier 1: Mouser; Supplier Part Number 1: 584-AD664TE883B; Packing: Tube; RoHS: N; Mounting Technology: Surface Mount; ComponentLink1Description: Manufacturer URL; ComponentLink1URL: http://www.analog.com/en/index.html; ComponentLink2Description: Datasheet; ComponentLink2URL: http://www.analog.com/static/imported-files/data_sheets/AD664.pdf; ComponentLink3Description: Package Specification; ComponentLink3URL: http://www.analog.com/static/imported-files/packages/PKG_PDF/LCC(E)/E_44_1.pdf; ComponentLink4Description: Product URL; ComponentLink4URL: http://www.analog.com/en/digital-to-analog-converters/da-converters/ad664/products/product.html
footprint E-44-1_N (Leadless Chip Carrier, 44-Leads, Body 16.5x16.5mm, Pitch 1.27mm, IPC Medium Density)
footprint E-44-1_L (Leadless Chip Carrier, 44-Leads, Body 16.5x16.5mm, Pitch 1.27mm, IPC High Density)
footprint E-44-1_M (Leadless Chip Carrier, 44-Leads, Body 16.5x16.5mm, Pitch 1.27mm, IPC Low Density)
pins: 1 ~{RD} (in), 2 ~{LS} (in), 3 NO CONNECT, 4 AGND (power), 5 VCC (+12V/+15V) (power), 6 VEE (-12V/-15V) (power), 7 RFA (in), 8 VOA (hiz), 9 VOB (hiz), 10 RFB (in), 11 VREFIN (in), 12 RFC (in), 13 VOC (hiz), 14 VOD (hiz), 15 RFD (in), 16 NO CONNECT, 17 NO CONNECT, 18 ~{CS} (in), 19 DS0 (in), 20 DS1 (in), 21 DGND (power), 22 ~{RST} (in), 23 ~{QS0} (in), 24 ~{QS1} (in), 25 ~{QS2} (in), 26 ~{TR} (in), 27 ~{MS} (in), 28 (LSB) DB0 (io), 29 DB1 (io), 30 DB2 (io), 31 DB3 (io), 32 DB4 (io), 33 DB5 (io), 34 NO CONNECT, 35 DB6 (io), 36 DB7 (io), 37 DB8 (io), 38 DB9 (io), 39 DB10 (io), 40 DB11 (MSB) (io), 41 NO CONNECT, 42 VLL (+5V) (power), 43 NO CONNECT, 44 NO CONNECT

## AD664TJ/883B
designator U?
Quad 12-Bit Monolithic Digital-to-Analog Converter, -55 to +125 degC, J-44, Tube; Generic Part Number: AD664; Manufacturer: Analog Devices; PartNumber: AD664TJ/883B; # DAC Outputs: 4; Max V+: 16.5V; Op Pwr Diss: 525mW; Resolution (Bits): 12; Settling Time: 8µs; Single Supply: No; DatasheetVersion: Rev.D; PackageVersion: rev0, 1992; PackageReference: J-44; PackageDescription: 44-Pin Leaded Chip Carrier 1.27 mm Pitch; Supplier 1: Mouser; Supplier Part Number 1: 584-AD664TJ883B; Packing: Tube; RoHS: N; Mounting Technology: Surface Mount; ComponentLink1Description: Manufacturer URL; ComponentLink1URL: http://www.analog.com/en/index.html; ComponentLink2Description: Datasheet; ComponentLink2URL: http://www.analog.com/static/imported-files/data_sheets/AD664.pdf; ComponentLink3Description: Package Specification; ComponentLink3URL: http://www.analog.com/static/imported-files/packages/95600467J_44.pdf; ComponentLink4Description: Product URL; ComponentLink4URL: http://www.analog.com/en/digital-to-analog-converters/da-converters/ad664/products/product.html
footprint J-44_N (Leaded Chip Carrier, 44-Leads, Body 16.4x16.4mm, Pitch 1.27mm, IPC Medium Density)
footprint J-44_L (Leaded Chip Carrier, 44-Leads, Body 16.4x16.4mm, Pitch 1.27mm, IPC High Density)
footprint J-44_M (Leaded Chip Carrier, 44-Leads, Body 16.4x16.4mm, Pitch 1.27mm, IPC Low Density)
pins: 1 ~{RD} (in), 2 ~{LS} (in), 3 NO CONNECT, 4 AGND (power), 5 VCC (+12V/+15V) (power), 6 VEE (-12V/-15V) (power), 7 RFA (in), 8 VOA (hiz), 9 VOB (hiz), 10 RFB (in), 11 VREFIN (in), 12 RFC (in), 13 VOC (hiz), 14 VOD (hiz), 15 RFD (in), 16 NO CONNECT, 17 NO CONNECT, 18 ~{CS} (in), 19 DS0 (in), 20 DS1 (in), 21 DGND (power), 22 ~{RST} (in), 23 ~{QS0} (in), 24 ~{QS1} (in), 25 ~{QS2} (in), 26 ~{TR} (in), 27 ~{MS} (in), 28 (LSB) DB0 (io), 29 DB1 (io), 30 DB2 (io), 31 DB3 (io), 32 DB4 (io), 33 DB5 (io), 34 NO CONNECT, 35 DB6 (io), 36 DB7 (io), 37 DB8 (io), 38 DB9 (io), 39 DB10 (io), 40 DB11 (MSB) (io), 41 NO CONNECT, 42 VLL (+5V) (power), 43 NO CONNECT, 44 NO CONNECT

## AD667AD
designator U?
Single 12-Bit Microprocessor-Compatible Digital-to-Analog Converter, 25 to +85 degC, D-28-2, Tube; Generic Part Number: AD667; Manufacturer: Analog Devices; PartNumber: AD667AD; # DAC Outputs: 1; Max V+: 16.5V; Op Pwr Diss: 555mW; Resolution (Bits): 12; Settling Time: 2µs; Single Supply: No; DatasheetVersion: Rev.A; PackageVersion: Oct-2004; PackageReference: D-28-2; PackageDescription: 28-Lead Side-Brazed Ceramic Dual In-Line Package [SBDIP]; Supplier 1: Digi-Key; Supplier Part Number 1: AD667AD-ND; Supplier 2: Newark; Supplier Part Number 2: 05F7174; Supplier 3: Mouser; Supplier Part Number 3: 584-AD667AD; Packing: Tube; RoHS: N; Mounting Technology: Through Hole; ComponentLink1Description: Manufacturer URL; ComponentLink1URL: http://www.analog.com/en/index.html; ComponentLink2Description: Datasheet; ComponentLink2URL: http://www.analog.com/static/imported-files/data_sheets/AD667.pdf; ComponentLink3Description: Package Specification; ComponentLink3URL: http://www.analog.com/static/imported-files/packages/28824602D_28_2.pdf; ComponentLink4Description: Product URL; ComponentLink4URL: http://www.analog.com/en/digital-to-analog-converters/da-converters/ad667/products/product.html
footprint D-28-2 (DIP, 28-Leads, Row Spacing 15.24mm, Pitch 2.54mm, Body 37.2x14.1mm)
pins: 1 20V SPAN (out), 2 10V SPAN (out), 3 SUM JCT (out), 4 BIP OFF (in), 5 AGND (power), 6 VREF OUT (out), 7 VREF IN (in), 8 +VCC (power), 9 VOUT (out), 10 -VEE (power), 11 ~{CS} (in), 12 A3 (in), 13 A2 (in), 14 A1 (in), 15 A0 (in), 16 POWER GROUND (power), 17 DB0 (LSB) (in), 18 DB1 (in), 19 DB2 (in), 20 DB3 (in), 21 DB4 (in), 22 DB5 (in), 23 DB6 (in), 24 DB7 (in), 25 DB8 (in), 26 DB9 (in), 27 DB10 (in), 28 DB11 (MSB) (in)

## AD667BD
designator U?
Single 12-Bit Microprocessor-Compatible Digital-to-Analog Converter, -25 to +85 degC, D-28-2, Tube; Generic Part Number: AD667; Manufacturer: Analog Devices; PartNumber: AD667BD; # DAC Outputs: 1; Max V+: 16.5V; Op Pwr Diss: 555mW; Resolution (Bits): 12; Settling Time: 2µs; Single Supply: No; DatasheetVersion: Rev.A; PackageVersion: Oct-2004; PackageReference: D-28-2; PackageDescription: 28-Lead Side-Brazed Ceramic Dual In-Line Package [SBDIP]; Supplier 1: Digi-Key; Supplier Part Number 1: AD667BD-ND; Supplier 2: Newark; Supplier Part Number 2: 05F7175; Supplier 3: Mouser; Supplier Part Number 3: 584-AD667BD; Packing: Tube; RoHS: N; Mounting Technology: Through Hole; ComponentLink1Description: Manufacturer URL; ComponentLink1URL: http://www.analog.com/en/index.html; ComponentLink2Description: Datasheet; ComponentLink2URL: http://www.analog.com/static/imported-files/data_sheets/AD667.pdf; ComponentLink3Description: Package Specification; ComponentLink3URL: http://www.analog.com/static/imported-files/packages/28824602D_28_2.pdf; ComponentLink4Description: Product URL; ComponentLink4URL: http://www.analog.com/en/digital-to-analog-converters/da-converters/ad667/products/product.html
footprint D-28-2 (DIP, 28-Leads, Row Spacing 15.24mm, Pitch 2.54mm, Body 37.2x14.1mm)
pins: 1 20V SPAN (out), 2 10V SPAN (out), 3 SUM JCT (out), 4 BIP OFF (in), 5 AGND (power), 6 VREF OUT (out), 7 VREF IN (in), 8 +VCC (power), 9 VOUT (out), 10 -VEE (power), 11 ~{CS} (in), 12 A3 (in), 13 A2 (in), 14 A1 (in), 15 A0 (in), 16 POWER GROUND (power), 17 DB0 (LSB) (in), 18 DB1 (in), 19 DB2 (in), 20 DB3 (in), 21 DB4 (in), 22 DB5 (in), 23 DB6 (in), 24 DB7 (in), 25 DB8 (in), 26 DB9 (in), 27 DB10 (in), 28 DB11 (MSB) (in)

## AD667JNZ
designator U?
Single 12-Bit Microprocessor-Compatible Digital-to-Analog Converter, 0 to +70 degC, N-28-2, Pb-Free, Tube; Generic Part Number: AD667; Manufacturer: Analog Devices; PartNumber: AD667JNZ; # DAC Outputs: 1; Max V+: 16.5V; Op Pwr Diss: 555mW; Resolution (Bits): 12; Settling Time: 2µs; Single Supply: No; DatasheetVersion: Rev.A; PackageVersion: 071006-A; PackageReference: N-28-2; PackageDescription: 28-Lead Plastic Dual In-Line Package [PDIP]; Supplier 1: Digi-Key; Supplier Part Number 1: AD667JNZ-ND; Supplier 2: Farnell; Supplier Part Number 2: 9604502; Supplier 3: Newark; Supplier Part Number 3: 59K4495; Supplier 4: Mouser; Supplier Part Number 4: 584-AD667JNZ; Packing: Tube; RoHS: Y; Mounting Technology: Through Hole; Code_JEDEC: MS-011; ComponentLink1Description: Manufacturer URL; ComponentLink1URL: http://www.analog.com/en/index.html; ComponentLink2Description: Datasheet; ComponentLink2URL: http://www.analog.com/static/imported-files/data_sheets/AD667.pdf; ComponentLink3Description: Package Specification; ComponentLink3URL: http://www.analog.com/static/imported-files/packages/50849324123784N_28_2.pdf; ComponentLink4Description: Product URL; ComponentLink4URL: http://www.analog.com/en/digital-to-analog-converters/da-converters/ad667/products/product.html
footprint N-28-2 (DIP, 28-Leads, Row Spacing 15.55mm, Pitch 2.54mm, Body 37.4x13.5mm)
pins: 1 20V SPAN (out), 2 10V SPAN (out), 3 SUM JCT (out), 4 BIP OFF (in), 5 AGND (power), 6 VREF OUT (out), 7 VREF IN (in), 8 +VCC (power), 9 VOUT (out), 10 -VEE (power), 11 ~{CS} (in), 12 A3 (in), 13 A2 (in), 14 A1 (in), 15 A0 (in), 16 POWER GROUND (power), 17 DB0(LSB) (in), 18 DB1 (in), 19 DB2 (in), 20 DB3 (in), 21 DB4 (in), 22 DB5 (in), 23 DB6 (in), 24 DB7 (in), 25 DB8 (in), 26 DB9 (in), 27 DB10 (in), 28 DB11(MSB) (in)

## AD667JP
designator U?
Single 12-Bit Microprocessor-Compatible Digital-to-Analog Converter, 0 to +70 degC, P-28, Tube; Generic Part Number: AD667; Manufacturer: Analog Devices; PartNumber: AD667JP; # DAC Outputs: 1; Max V+: 16.5V; Op Pwr Diss: 555mW; Resolution (Bits): 12; Settling Time: 2µs; Single Supply: No; DatasheetVersion: Rev.A; PackageVersion: 042508-A; PackageReference: P-28; PackageDescription: 28-Lead Plastic Leaded Chip Carrier [PLCC]; Supplier 1: Digi-Key; Supplier Part Number 1: AD667JP-ND; Supplier 2: Mouser; Supplier Part Number 2: 584-AD667JP; Packing: Tube; RoHS: N; Mounting Technology: Surface Mount; Code_JEDEC: MO-047-AB; ComponentLink1Description: Manufacturer URL; ComponentLink1URL: http://www.analog.com/en/index.html; ComponentLink2Description: Datasheet; ComponentLink2URL: http://www.analog.com/static/imported-files/data_sheets/AD667.pdf; ComponentLink3Description: Package Specification; ComponentLink3URL: http://www.analog.com/static/imported-files/packages/PKG_PDF/PLCC(P)/P_28.pdf; ComponentLink4Description: Product URL; ComponentLink4URL: http://www.analog.com/en/digital-to-analog-converters/da-converters/ad667/products/product.html
footprint P-28_N (Leaded Chip Carrier, 28-Leads, Body 11.5x11.5mm, Pitch 1.27mm, IPC Medium Density)
footprint P-28_L (Leaded Chip Carrier, 28-Leads, Body 11.5x11.5mm, Pitch 1.27mm, IPC High Density)
footprint P-28_M (Leaded Chip Carrier, 28-Leads, Body 11.5x11.5mm, Pitch 1.27mm, IPC Low Density)
pins: 1 20V SPAN (out), 2 10V SPAN (out), 3 SLIM JCT (out), 4 BIP OFF (in), 5 REF GND (power), 6 VREF OUT (out), 7 VREF IN (in), 8 +VCC (power), 9 VOUT (out), 10 -VEE (power), 11 ~{CS} (in), 12 A3 (in), 13 A2 (in), 14 A1 (in), 15 A0 (in), 16 POWER GROUND (power), 17 DB0 (LSB) (in), 18 DB1 (in), 19 DB2 (in), 20 DB3 (in), 21 DB4 (in), 22 DB5 (in), 23 DB6 (in), 24 DB7 (in), 25 DB8 (in), 26 DB9 (in), 27 DB10 (in), 28 DB11 (MSB) (in)

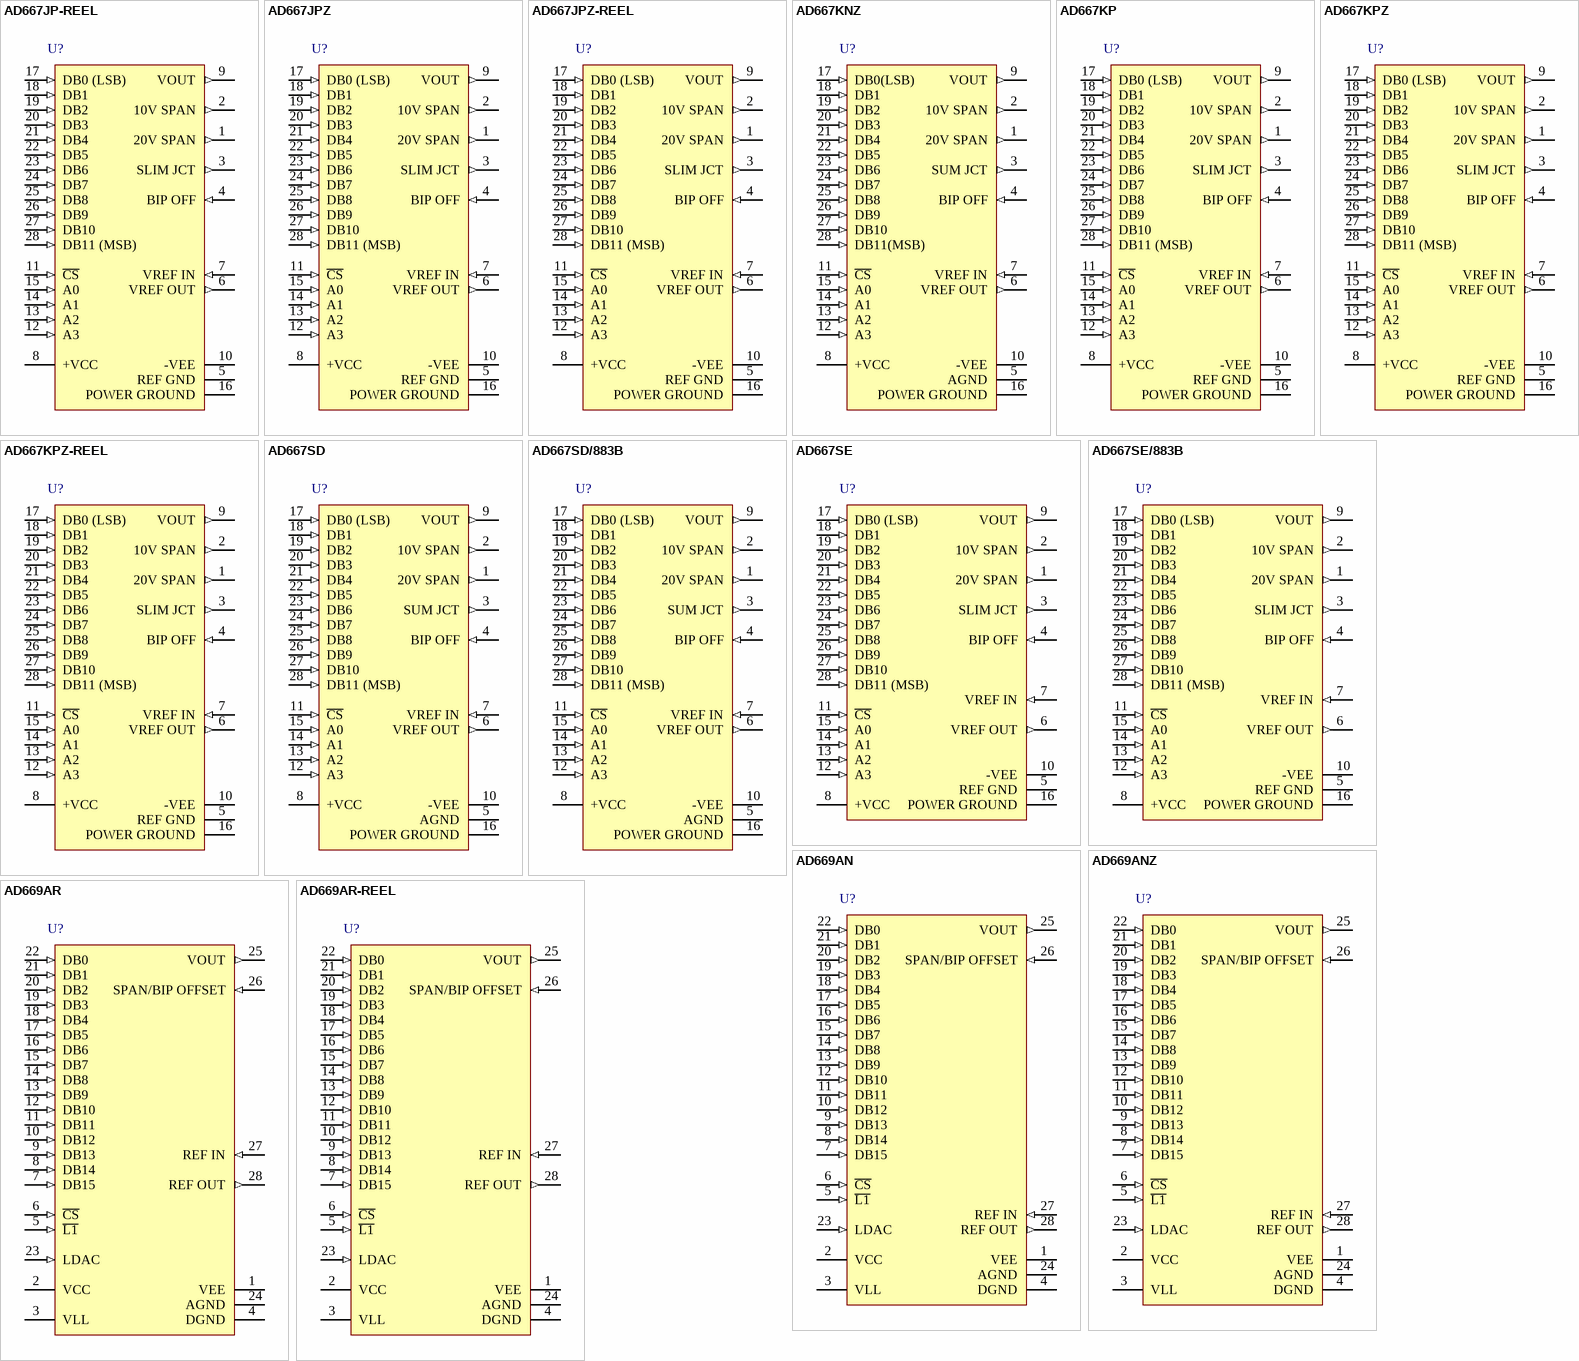
[diagram p6: symbols AD667JP-REEL to AD669AR-REEL]

## AD667JP-REEL
designator U?
Single 12-Bit Microprocessor-Compatible Digital-to-Analog Converter, 0 to +70 degC, P-28, Reel; Generic Part Number: AD667; Manufacturer: Analog Devices; PartNumber: AD667JP-REEL; # DAC Outputs: 1; Max V+: 16.5V; Op Pwr Diss: 555mW; Resolution (Bits): 12; Settling Time: 2µs; Single Supply: No; DatasheetVersion: Rev.A; PackageVersion: 042508-A; PackageReference: P-28; PackageDescription: 28-Lead Plastic Leaded Chip Carrier [PLCC]; Supplier 1: Digi-Key; Supplier Part Number 1: AD667JP-REEL-ND; Supplier 2: Newark; Supplier Part Number 2: 74R5966; Supplier 3: Mouser; Supplier Part Number 3: 584-AD667JP-R; Packing: Reel; RoHS: N; Mounting Technology: Surface Mount; Code_JEDEC: MO-047-AB; ComponentLink1Description: Manufacturer URL; ComponentLink1URL: http://www.analog.com/en/index.html; ComponentLink2Description: Datasheet; ComponentLink2URL: http://www.analog.com/static/imported-files/data_sheets/AD667.pdf; ComponentLink3Description: Package Specification; ComponentLink3URL: http://www.analog.com/static/imported-files/packages/PKG_PDF/PLCC(P)/P_28.pdf; ComponentLink4Description: Product URL; ComponentLink4URL: http://www.analog.com/en/digital-to-analog-converters/da-converters/ad667/products/product.html
footprint P-28_N (Leaded Chip Carrier, 28-Leads, Body 11.5x11.5mm, Pitch 1.27mm, IPC Medium Density)
footprint P-28_L (Leaded Chip Carrier, 28-Leads, Body 11.5x11.5mm, Pitch 1.27mm, IPC High Density)
footprint P-28_M (Leaded Chip Carrier, 28-Leads, Body 11.5x11.5mm, Pitch 1.27mm, IPC Low Density)
pins: 1 20V SPAN (out), 2 10V SPAN (out), 3 SLIM JCT (out), 4 BIP OFF (in), 5 REF GND (power), 6 VREF OUT (out), 7 VREF IN (in), 8 +VCC (power), 9 VOUT (out), 10 -VEE (power), 11 ~{CS} (in), 12 A3 (in), 13 A2 (in), 14 A1 (in), 15 A0 (in), 16 POWER GROUND (power), 17 DB0 (LSB) (in), 18 DB1 (in), 19 DB2 (in), 20 DB3 (in), 21 DB4 (in), 22 DB5 (in), 23 DB6 (in), 24 DB7 (in), 25 DB8 (in), 26 DB9 (in), 27 DB10 (in), 28 DB11 (MSB) (in)

## AD667JPZ
designator U?
Single 12-Bit Microprocessor-Compatible Digital-to-Analog Converter, 0 to +70 degC, P-28, Pb-Free, Tube; Generic Part Number: AD667; Manufacturer: Analog Devices; PartNumber: AD667JPZ; # DAC Outputs: 1; Max V+: 16.5V; Op Pwr Diss: 555mW; Resolution (Bits): 12; Settling Time: 2µs; Single Supply: No; DatasheetVersion: Rev.A; PackageVersion: 042508-A; PackageReference: P-28; PackageDescription: 28-Lead Plastic Leaded Chip Carrier [PLCC]; Supplier 1: Digi-Key; Supplier Part Number 1: AD667JPZ-ND; Supplier 2: Mouser; Supplier Part Number 2: 584-AD667JPZ; Packing: Tube; RoHS: Y; Mounting Technology: Surface Mount; Code_JEDEC: MO-047-AB; ComponentLink1Description: Manufacturer URL; ComponentLink1URL: http://www.analog.com/en/index.html; ComponentLink2Description: Datasheet; ComponentLink2URL: http://www.analog.com/static/imported-files/data_sheets/AD667.pdf; ComponentLink3Description: Package Specification; ComponentLink3URL: http://www.analog.com/static/imported-files/packages/PKG_PDF/PLCC(P)/P_28.pdf; ComponentLink4Description: Product URL; ComponentLink4URL: http://www.analog.com/en/digital-to-analog-converters/da-converters/ad667/products/product.html
footprint P-28_N (Leaded Chip Carrier, 28-Leads, Body 11.5x11.5mm, Pitch 1.27mm, IPC Medium Density)
footprint P-28_L (Leaded Chip Carrier, 28-Leads, Body 11.5x11.5mm, Pitch 1.27mm, IPC High Density)
footprint P-28_M (Leaded Chip Carrier, 28-Leads, Body 11.5x11.5mm, Pitch 1.27mm, IPC Low Density)
pins: 1 20V SPAN (out), 2 10V SPAN (out), 3 SLIM JCT (out), 4 BIP OFF (in), 5 REF GND (power), 6 VREF OUT (out), 7 VREF IN (in), 8 +VCC (power), 9 VOUT (out), 10 -VEE (power), 11 ~{CS} (in), 12 A3 (in), 13 A2 (in), 14 A1 (in), 15 A0 (in), 16 POWER GROUND (power), 17 DB0 (LSB) (in), 18 DB1 (in), 19 DB2 (in), 20 DB3 (in), 21 DB4 (in), 22 DB5 (in), 23 DB6 (in), 24 DB7 (in), 25 DB8 (in), 26 DB9 (in), 27 DB10 (in), 28 DB11 (MSB) (in)

## AD667JPZ-REEL
designator U?
Single 12-Bit Microprocessor-Compatible Digital-to-Analog Converter, 0 to +70 degC, P-28, Pb-Free, Reel; Generic Part Number: AD667; Manufacturer: Analog Devices; PartNumber: AD667JPZ-REEL; # DAC Outputs: 1; Max V+: 16.5V; Op Pwr Diss: 555mW; Resolution (Bits): 12; Settling Time: 2µs; Single Supply: No; DatasheetVersion: Rev.A; PackageVersion: 042508-A; PackageReference: P-28; PackageDescription: 28-Lead Plastic Leaded Chip Carrier [PLCC]; Supplier 1: Digi-Key; Supplier Part Number 1: AD667JPZ-REEL-ND; Supplier 2: Newark; Supplier Part Number 2: 76R7611; Supplier 3: Mouser; Supplier Part Number 3: 584-AD667JPZ-R; Packing: Reel; RoHS: Y; Mounting Technology: Surface Mount; Code_JEDEC: MO-047-AB; ComponentLink1Description: Manufacturer URL; ComponentLink1URL: http://www.analog.com/en/index.html; ComponentLink2Description: Datasheet; ComponentLink2URL: http://www.analog.com/static/imported-files/data_sheets/AD667.pdf; ComponentLink3Description: Package Specification; ComponentLink3URL: http://www.analog.com/static/imported-files/packages/PKG_PDF/PLCC(P)/P_28.pdf; ComponentLink4Description: Product URL; ComponentLink4URL: http://www.analog.com/en/digital-to-analog-converters/da-converters/ad667/products/product.html
footprint P-28_N (Leaded Chip Carrier, 28-Leads, Body 11.5x11.5mm, Pitch 1.27mm, IPC Medium Density)
footprint P-28_L (Leaded Chip Carrier, 28-Leads, Body 11.5x11.5mm, Pitch 1.27mm, IPC High Density)
footprint P-28_M (Leaded Chip Carrier, 28-Leads, Body 11.5x11.5mm, Pitch 1.27mm, IPC Low Density)
pins: 1 20V SPAN (out), 2 10V SPAN (out), 3 SLIM JCT (out), 4 BIP OFF (in), 5 REF GND (power), 6 VREF OUT (out), 7 VREF IN (in), 8 +VCC (power), 9 VOUT (out), 10 -VEE (power), 11 ~{CS} (in), 12 A3 (in), 13 A2 (in), 14 A1 (in), 15 A0 (in), 16 POWER GROUND (power), 17 DB0 (LSB) (in), 18 DB1 (in), 19 DB2 (in), 20 DB3 (in), 21 DB4 (in), 22 DB5 (in), 23 DB6 (in), 24 DB7 (in), 25 DB8 (in), 26 DB9 (in), 27 DB10 (in), 28 DB11 (MSB) (in)

## AD667KNZ
designator U?
Single 12-Bit Microprocessor-Compatible Digital-to-Analog Converter, 0 to +70 degC, N-28-2, Pb-Free, Tube; Generic Part Number: AD667; Manufacturer: Analog Devices; PartNumber: AD667KNZ; # DAC Outputs: 1; Max V+: 16.5V; Op Pwr Diss: 555mW; Resolution (Bits): 12; Settling Time: 2µs; Single Supply: No; DatasheetVersion: Rev.A; PackageVersion: 071006-A; PackageReference: N-28-2; PackageDescription: 28-Lead Plastic Dual In-Line Package [PDIP]; Supplier 1: Digi-Key; Supplier Part Number 1: AD667KNZ-ND; Supplier 2: Mouser; Supplier Part Number 2: 584-AD667KNZ; Packing: Tube; RoHS: Y; Mounting Technology: Through Hole; Code_JEDEC: MS-011; ComponentLink1Description: Manufacturer URL; ComponentLink1URL: http://www.analog.com/en/index.html; ComponentLink2Description: Datasheet; ComponentLink2URL: http://www.analog.com/static/imported-files/data_sheets/AD667.pdf; ComponentLink3Description: Package Specification; ComponentLink3URL: http://www.analog.com/static/imported-files/packages/50849324123784N_28_2.pdf; ComponentLink4Description: Product URL; ComponentLink4URL: http://www.analog.com/en/digital-to-analog-converters/da-converters/ad667/products/product.html
footprint N-28-2 (DIP, 28-Leads, Row Spacing 15.55mm, Pitch 2.54mm, Body 37.4x13.5mm)
pins: 1 20V SPAN (out), 2 10V SPAN (out), 3 SUM JCT (out), 4 BIP OFF (in), 5 AGND (power), 6 VREF OUT (out), 7 VREF IN (in), 8 +VCC (power), 9 VOUT (out), 10 -VEE (power), 11 ~{CS} (in), 12 A3 (in), 13 A2 (in), 14 A1 (in), 15 A0 (in), 16 POWER GROUND (power), 17 DB0(LSB) (in), 18 DB1 (in), 19 DB2 (in), 20 DB3 (in), 21 DB4 (in), 22 DB5 (in), 23 DB6 (in), 24 DB7 (in), 25 DB8 (in), 26 DB9 (in), 27 DB10 (in), 28 DB11(MSB) (in)